# Altium footprint library Connectors_JST.PcbLib: 10 footprints
Each footprint in its own frame and in the unit in brackets; x right, y up, seen from the top. Pads: shape width x height; smd on the part's side, far side on the other; paste and mask are expansions set on the pad; w line width, h text height; cw(c..) or ccw(c..) is an arc to the next point about the centre after c.
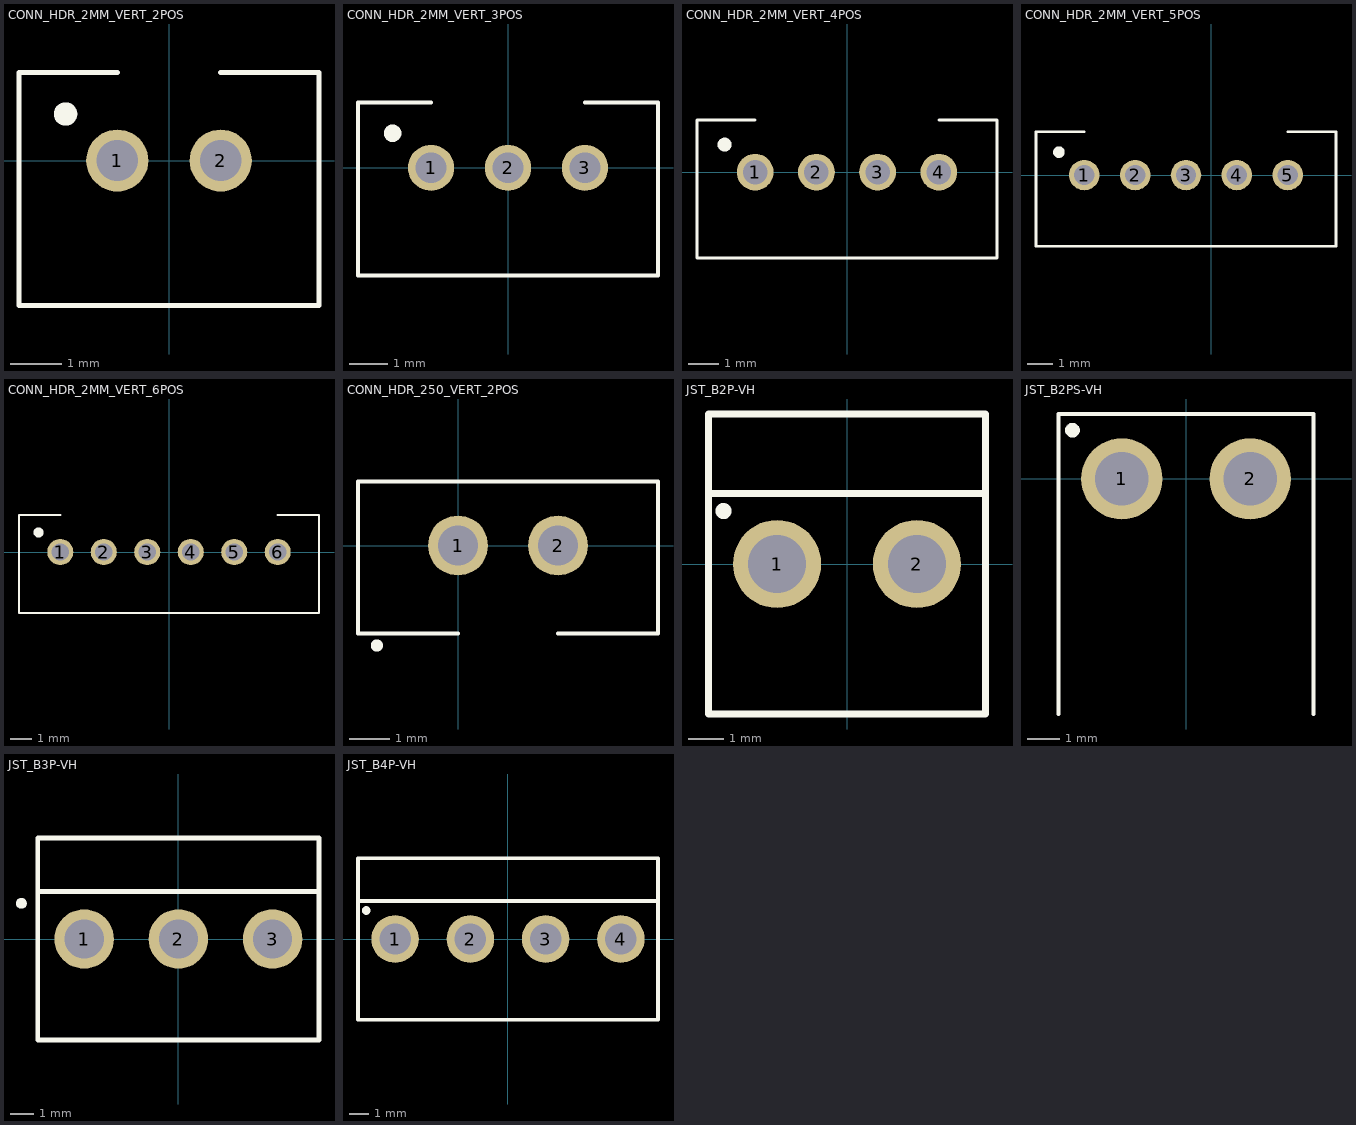
[diagram p0: the footprints below, top view; thin cyan lines are the x and y axes]

## CONN_HDR_2MM_VERT_2POS [mm] "Shrouded header, top entry, 2mm pitch, JST PH type"
height 6
pads (2):
  round 1.2 hole 0.8: 1(-1,0) 2(1,0)
Top Overlay:
  circle w0.254: c-2,0.9 r0.1
  lines w0.1: -1,1.7 -2.9,1.7 -2.9,-2.8 2.9,-2.8 2.9,1.7 1,1.7

## CONN_HDR_2MM_VERT_3POS [mm] "Shrouded header, top entry, 2mm pitch, JST PH type"
height 6
pads (3):
  round 1.2 hole 0.8: 1(-2,0) 2(0,0) 3(2,0)
Top Overlay:
  circle w0.254: c-3,0.9 r0.1
  lines w0.1: -2,1.7 -3.9,1.7 -3.9,-2.8 3.9,-2.8 3.9,1.7 2,1.7

## CONN_HDR_2MM_VERT_4POS [mm] "Shrouded header, top entry, 2mm pitch, JST PH type"
height 6
pads (4):
  round 1.2 hole 0.8: 1(-3,0) 2(-1,0) 3(1,0) 4(3,0)
Top Overlay:
  circle w0.254: c-4,0.9 r0.1
  lines w0.1: -3,1.7 -4.9,1.7 -4.9,-2.8 4.9,-2.8 4.9,1.7 3,1.7
3D body: height 6, standoff -3.4, extent -4.95,-2.8 4.95,1.7

## CONN_HDR_2MM_VERT_5POS [mm] "Shrouded header, top entry, 2mm pitch, JST PH type"
height 6
pads (5):
  round 1.2 hole 0.8: 1(-5,0) 2(-3,0) 3(-1,0) 4(1,0) 5(3,0)
Top Overlay:
  circle w0.254: c-6,0.9 r0.1
  lines w0.1: -5,1.7 -6.9,1.7 -6.9,-2.8 4.9,-2.8 4.9,1.7 3,1.7

## CONN_HDR_2MM_VERT_6POS [mm] "Shrouded header, top entry, 2mm pitch, JST PH type"
height 6
pads (6):
  round 1.2 hole 0.8: 1(-5,0) 2(-3,0) 3(-1,0) 4(1,0) 5(3,0) 6(5,0)
Top Overlay:
  circle w0.254: c-6,0.9 r0.1
  lines w0.1: -5,1.7 -6.9,1.7 -6.9,-2.8 6.9,-2.8 6.9,1.7 5,1.7

## CONN_HDR_250_VERT_2POS [mm] "Shrouded header, top entry, 2.5mm pitch, JST EH type"
height 8.1
pads (2):
  round 1.5 hole 1: 1(0,0) 2(2.5,0)
Top Overlay:
  circle w0.254: c-2.025,-2.5 r0.025
  lines w0.1: 0,-2.2 -2.5,-2.2 -2.5,1.6 5,1.6 5,-2.2 2.5,-2.2

## JST_B2P-VH [mm] "Unshrouded header, top entry, 3.96mm pitch, JST VH type"
height 16.5
pads (2):
  round 2.5 hole 1.65: 1(-1.98,0) 2(1.98,0)
Top Overlay:
  circle w0.254: c-3.5,1.5 r0.1
  lines w0.2: -3.9,2 3.9,2 ; -3.93,-4.25 -3.93,4.25 3.93,4.25 3.93,-4.25 -3.93,-4.25

## JST_B2PS-VH [mm] "Unshrouded header, side entry, 3.96mm pitch, JST VH type"
height 8
pads (2):
  round 2.5 hole 1.65: 1(-1.98,0) 2(1.98,0)
Top Overlay:
  circle w0.254: c-3.5,1.5 r0.1
  lines w0.127: -3.93,-7.25 -3.93,2 3.93,2 3.93,-7.25

## JST_B3P-VH [mm] "Unshrouded header, top entry, 3.96mm pitch, JST VH type"
height 16.5
pads (3):
  round 2.5 hole 1.65: 1(-3.96,0) 2(0,0) 3(3.96,0)
Top Overlay:
  circle w0.254: c-6.6,1.5 r0.1
  lines w0.2: -5.88,2 5.91,2 ; -5.91,-4.25 5.91,-4.25 5.91,4.25 -5.91,4.25 -5.91,-4.25

## JST_B4P-VH [mm] "Unshrouded header, top entry, 3.96mm pitch, JST VH type"
height 16.5
pads (4):
  round 2.5 hole 1.65: 1(-5.94,0) 2(-1.98,0) 3(1.98,0) 4(5.94,0)
Top Overlay:
  circle w0.254: c-7.46,1.5 r0.1
  lines w0.2: -7.86,2 7.89,2 ; -7.89,-4.25 -7.89,4.25 7.89,4.25 7.89,-4.25 -7.89,-4.25